# Altium footprint library SmallHandheldRev1.PcbLib: 31 footprints (part 2 of 2)
Each footprint in its own frame and in the unit in brackets; x right, y up, seen from the top. Pads: shape width x height; smd on the part's side, far side on the other; paste and mask are expansions set on the pad; w line width, h text height; cw(c..) or ccw(c..) is an arc to the next point about the centre after c.
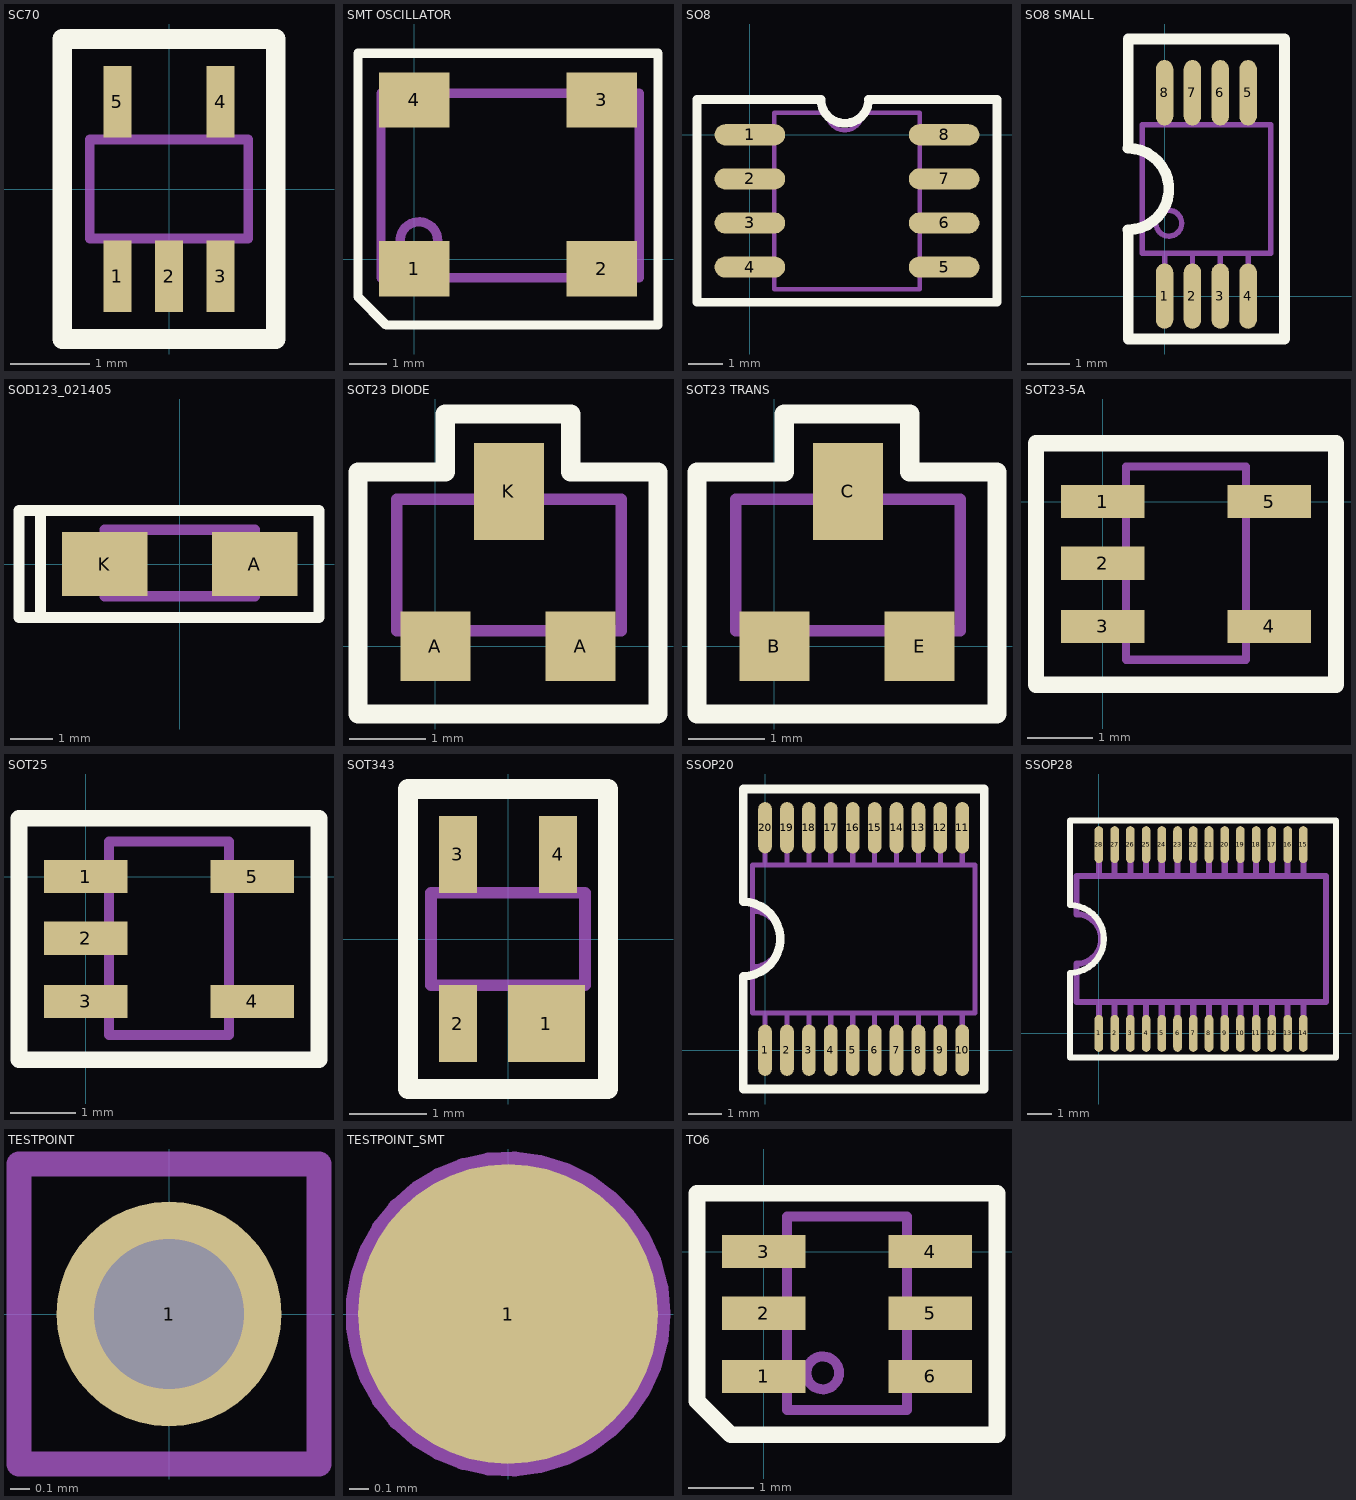
[diagram p1: the footprints below, top view; thin cyan lines are the x and y axes]

## SC70 [mm]
height 9.525
pads (5):
  rect 0.35x0.9 smd: 1(-0.65,-1.1) 2(0,-1.1) 3(0.65,-1.1) 4(0.65,1.1) 5(-0.65,1.1)
Top Overlay:
  lines w0.25: -1.346,-1.892 -1.346,0 -1.346,1.892 0,1.892 1.346,1.892 1.346,0 1.346,-1.892 0,-1.892 -1.346,-1.892
Mechanical 1:
  lines w0.125: -0.65,-1.1 -0.65,-0.625 ; -0.65,0.625 -0.65,1.1 ; 0,-1.1 0,-0.625 ; 0,0.625 -1,0.625 ; 0.65,-1.1 0.65,-0.625 ; 0.65,0.625 0.65,1.1 ; 1,0 1,-0.625 ; -1,0.625 1,0.625 1,-0.625 ; -1,0.625 -1,-0.625 1,-0.625
Mechanical 8:
  text ".Designator" at -0.711,-0.194 h0.43

## SMT OSCILLATOR [mm]
pads (4):
  rect 1.9x1.5 smd: 1(0,-0.254) 2(5.08,-0.254) 3(5.08,4.318) 4(0,4.318)
Top Overlay:
  lines w0.254: -1.524,-1.016 -1.524,5.334 -1.524,5.588 6.604,5.588 6.604,5.334 6.604,-1.778 0.127,-1.778 -0.762,-1.778 -1.524,-1.016
Mechanical 1:
  circle w0.254: c0.127,0.508 r0.508
  lines w0.254: -0.9,-0.5 6.1,-0.5 6.1,4.5 -0.9,4.5 -0.9,-0.5
Mechanical 8:
  text ".Designator" at 2.708,1.524 h0.43
Mechanical 9:
  text ".Comment" at -1.27,-2.032 h1.02

## SO8 [mil]
pads (8):
  oval 80x24 smd: 1(0,0) 2(0,-50) 3(0,-100) 4(0,-150) 5(220,-150) 6(220,-100) 7(220,-50) 8(220,0)
Top Overlay:
  lines w9.84: 80.46,40 -60,40 -60,-190 280,-190 280,40 134.54,40
  lines w10: 80.46,40 ccw(c107.5,40) 134.54,40
Mechanical 1:
  lines w4.92: 27.5,-155 0,-155 0,-145 27.5,-145 ; 27.5,-105 0,-105 0,-95 27.5,-95 ; 27.5,-55 0,-55 0,-45 27.5,-45 ; 27.5,-5 0,-5 0,5 27.5,5 ; 192.5,-155 220,-155 220,-145 192.5,-145 ; 192.5,-105 220,-105 220,-95 192.5,-95 ; 192.5,-55 220,-55 220,-45 192.5,-45 ; 192.5,-5 220,-5 220,5 192.5,5 ; 27.5,-175 27.5,25 87.5,25 ccw(c107.5,25) 127.5,25 192.5,25 192.5,-175 27.5,-175
Mechanical 8:
  text ".Designator" at 92.87,-78 h17

## SO8 SMALL [mil]
pads (8):
  oval 16x60 smd: 1(0,0) 2(25.59,0) 3(51.18,0) 4(76.77,0) 5(76.77,186.85) 6(51.18,186.85) 7(25.59,186.85) 8(0,186.85)
Top Overlay:
  lines w9.84: -33.46,61.02 -33.46,-39.37 1.97,-39.37 110.24,-39.37 110.24,153.54 110.24,236.22 74.8,236.22 -33.46,236.22 -33.46,135.83
  lines w10: -33.46,61.02 ccw(c-33.46,98.43) -33.46,135.83
Mechanical 1:
  circle w4.92: c3.94,66.93 r11.81
  lines w4.92: 0,0 0,39.37 ; 0,157.48 0,196.85 ; 25.59,0 25.59,39.37 ; 25.59,157.48 25.59,196.85 ; 51.18,0 51.18,39.37 ; 51.18,157.48 51.18,196.85 ; 76.77,0 76.77,39.37 ; 76.77,157.48 76.77,196.85 ; 97.44,98.43 97.44,157.48 ; 97.44,157.48 -20.67,157.48 -20.67,39.37 97.44,39.37 97.44,157.48
Mechanical 8:
  text ".Designator" at 52,85.87 h17

## SOD123_021405 [mil] "SMT"
height 50
pads (2):
  rect 80x60 smd: A(70,0) K(-70,0)
Top Overlay:
  lines w10: -130,-50 -130,50 ; -150,-50 -150,50 40,50 130,50 130,-50 40,-50 -150,-50
Mechanical 1:
  lines w10: -40,-30 -40,32 ; -70,-30 -70,32 70,32 70,-30 -70,-30
Mechanical 8:
  text ".Designator" at 41,8.63 h17

## SOT23 DIODE [mil]
pads (3):
  rect 36x36 smd: A(0,0) A(75,0)
  rect 36x50 smd: K(38,80)
Top Overlay:
  lines w10: -40,-35 115,-35 115,90 70,90 70,120 23,120 5,120 5,90 -40,90 -40,-35
Mechanical 1:
  lines w6: -10,8 -10,-8 10,-8 10,8 ; 30,76 30,94 46,94 46,76 ; 66,8 66,-8 84,-8 84,8 ; -20,8 96,8 96,76 -20,76 -20,8
Mechanical 8:
  text ".Designator" at 32.52,54.88 h17

## SOT23 TRANS [mil]
pads (3):
  rect 36x36 smd: B(0,0) E(75,0)
  rect 36x50 smd: C(38,80)
Top Overlay:
  lines w10: -40,-35 115,-35 115,90 70,90 70,120 23,120 5,120 5,90 -40,90 -40,-35
Mechanical 1:
  lines w6: -10,8 -10,-8 10,-8 10,8 ; 30,76 30,94 46,94 46,76 ; 66,8 66,-8 84,-8 84,8 ; -20,8 96,8 96,76 -20,76 -20,8
Mechanical 8:
  text ".Designator" at 47.15,25.78 h17

## SOT23-5A [mil]
height 375
pads (5):
  rect 50x20 smd: 1(0,0) 2(0,-37) 3(0,-75) 4(100,-75) 5(100,0)
Top Overlay:
  lines w9.84: -40,-110 140,-110 140,35 -40,35 -40,-75 -40,-110
Mechanical 1:
  lines w4.92: 14,-79 -8,-79 -8,-71 12,-71 14,-69 ; 14,-41 -8,-41 -8,-33 14,-33 ; 14,-3 -8,-3 -8,5 14,5 ; 86,-79 108,-79 108,-71 86,-71 ; 86,-3 108,-3 108,5 86,5 ; 14,-95 14,21 86,21 86,-95 14,-95
Mechanical 8:
  text ".Designator" at 24,-45.63 h17

## SOT25 [mil]
pads (5):
  rect 50x20 smd: 1(0,0) 2(0,-37) 3(0,-75) 4(100,-75) 5(100,0)
Top Overlay:
  lines w10: -40,-110 140,-110 140,35 -40,35 -40,-75 -40,-110
Mechanical 1:
  lines w6: 14,-79 -8,-79 -8,-71 12,-71 14,-69 ; 14,-41 -8,-41 -8,-33 14,-33 ; 14,-3 -8,-3 -8,5 14,5 ; 86,-79 108,-79 108,-71 86,-71 ; 86,-3 108,-3 108,5 86,5 ; 14,-95 14,21 86,21 86,-95 14,-95
Mechanical 8:
  text ".Designator" at 37.3,-44.48 h17

## SOT343 [mm]
pads (4):
  rect 1x1 smd: 1(0.5,-1.1)
  rect 0.5x1 smd: 2(-0.65,-1.1) 3(-0.65,1.1) 4(0.65,1.1)
Top Overlay:
  lines w0.254: -1.3,-1.95 0,-1.95 1.3,-1.95 1.3,0 1.3,1.95 0,1.95 -1.3,1.95 -1.3,0 -1.3,-1.95
Mechanical 1:
  lines w0.152: -0.8,-0.6 -0.8,-1.1 -0.5,-1.1 -0.5,-0.6 ; -0.8,0.6 -0.8,1.1 -0.5,1.1 -0.5,0.6 ; 0.5,-0.6 0.15,-0.6 0.15,-1.1 0.85,-1.1 0.85,-0.6 ; 0.5,0.6 0.5,1.1 0.8,1.1 0.8,0.6 ; -0.5,0.6 -1,0.6 -1,-0.6 1,-0.6 1,0.6 -0.5,0.6
Mechanical 8:
  text ".Designator" at -0.297,-0.19 h0.43

## SSOP20 [mil]
pads (20):
  oval 16x60 smd: 1(0,0) 2(25.59,0) 3(51.18,0) 4(76.77,0) 5(102.36,0) 6(127.95,0) 7(153.54,0) 8(179.13,0) 9(204.72,0) 10(230.31,0) 11(230.31,259.84) 12(204.72,259.84) 13(179.13,259.84) 14(153.54,259.84) 15(127.95,259.84) 16(102.36,259.84) 17(76.77,259.84) 18(51.18,259.84) 19(25.59,259.84) 20(0,259.84)
Top Overlay:
  lines w10: -25.59,-45.28 190.94,-45.28 255.91,-45.28 255.91,129.92 255.91,305.12 39.37,305.12 -25.59,305.12 -25.59,173.27 cw(c-25.59,129.92) -25.59,86.57 -25.59,-45.28
Mechanical 1:
  lines w6: -14.76,97.44 ccw(c-14.76,129.92) -14.76,162.4 ; -14.76,129.92 -14.76,43.31 ; 0,0 0,43.31 ; 0,216.54 0,259.84 ; 25.59,0 25.59,43.31 ; 25.59,216.54 25.59,259.84 ; 51.18,0 51.18,43.31 ; 51.18,216.54 51.18,259.84 ; 76.77,0 76.77,43.31 ; 76.77,216.54 76.77,259.84 ; 102.36,0 102.36,43.31 ; 102.36,216.54 102.36,259.84 ; 127.95,0 127.95,43.31 ; 127.95,216.54 127.95,259.84 ; 153.54,0 153.54,43.31 ; 153.54,216.54 153.54,259.84 ; 179.13,0 179.13,43.31 ; 179.13,216.54 179.13,259.84 ; 204.72,0 204.72,43.31 ; 204.72,216.54 204.72,259.84 ; 230.31,0 230.31,43.31 ; 230.31,216.54 230.31,259.84 ; -14.76,43.31 -14.76,216.54 245.08,216.54 245.08,43.31 -14.76,43.31
Mechanical 8:
  text ".Designator" at 117.52,143.7 h17

## SSOP28 [mil]
pads (28):
  oval 14x60 smd: 1(0,0) 2(25.59,0) 3(51.18,0) 4(76.77,0) 5(102.36,0) 6(127.95,0) 7(153.54,0) 8(179.13,0) 9(204.72,0) 10(230.31,0) 11(255.91,0) 12(281.5,0) 13(307.09,0) 14(332.68,0) 15(332.68,307.09) 16(307.09,307.09) 17(281.5,307.09) 18(255.91,307.09) 19(230.31,307.09) 20(204.72,307.09) 21(179.13,307.09) 22(153.54,307.09) 23(127.95,307.09) 24(102.36,307.09) 25(76.77,307.09) 26(51.18,307.09) 27(25.59,307.09) 28(0,307.09)
Top Overlay:
  lines w10: -47.24,-39.37 -47.24,98.43 ccw(c-47.24,153.54) -47.24,208.66 -47.24,346.46 385.83,346.46 385.83,-39.37 -47.24,-39.37
Mechanical 1:
  lines w10: 0,0 0,51.18 ; 0,255.91 0,307.09 ; 25.59,0 25.59,51.18 ; 25.59,255.91 25.59,307.09 ; 51.18,0 51.18,51.18 ; 51.18,255.91 51.18,307.09 ; 76.77,0 76.77,51.18 ; 76.77,255.91 76.77,307.09 ; 102.36,0 102.36,51.18 ; 102.36,255.91 102.36,307.09 ; 127.95,0 127.95,51.18 ; 127.95,255.91 127.95,307.09 ; 153.54,0 153.54,51.18 ; 153.54,255.91 153.54,307.09 ; 166.54,51.18 -36.22,51.18 ; 179.13,0 179.13,51.18 ; 179.13,255.91 179.13,307.09 ; 204.72,0 204.72,51.18 ; 204.72,255.91 204.72,307.09 ; 230.31,0 230.31,51.18 ; 230.31,255.91 230.31,307.09 ; 255.91,0 255.91,51.18 ; 255.91,255.91 255.91,307.09 ; 281.5,0 281.5,51.18 ; 281.5,255.91 281.5,307.09 ; 307.09,0 307.09,51.18 ; 307.09,255.91 307.09,307.09 ; 332.68,0 332.68,51.18 ; 332.68,255.91 332.68,307.09 ; -36.22,51.18 -36.22,113.39 ccw(c-36.22,153.54) -36.22,193.7 -36.22,255.91 369.29,255.91 369.29,51.18 -36.22,51.18
Mechanical 8:
  text ".Designator" at 169.63,105 h40
Mechanical 9:
  text ".Comment" at 458.63,24 h40

## TESTPOINT [mil]
pads (1):
  round 45 hole 30: 1(0,0)
Mechanical 1:
  lines w4.92: -30,-30 30,-30 30,30 0,30 -30,30 -30,-30
Mechanical 8:
  text ".Designator" at 21,9 h17

## TESTPOINT_SMT [mil]
pads (1):
  round 60 smd: 1(0,0)
Mechanical 1:
  circle w5: c0,0 r30
Mechanical 8:
  text ".Designator" at -20,-5 h17

## TO6 [mil]
pads (6):
  rect 50x20 smd: 1(0,-75) 2(0,-37) 3(0,0) 4(100,0) 5(100,-37) 6(100,-75)
Top Overlay:
  lines w10: -40,-75 -40,35 ; -40,35 140,35 140,-110 -19.68,-110 -40,-89.69 -40,35
Mechanical 1:
  circle w6: c35.43,-72.83 r9.84
  lines w6: 14,-79 -8,-79 -8,-71 12,-71 14,-69 ; 14,-41 -8,-41 -8,-33 14,-33 ; 14,-3 -8,-3 -8,5 14,5 ; 86,-79 108,-79 108,-71 86,-71 ; 86,-41 108,-41 108,-33 86,-33 ; 86,-3 108,-3 108,5 86,5 ; 14,-95 14,21 86,21 86,-95 14,-95
Mechanical 8:
  text ".Designator" at 64.7,-29.52 h17